# Altium footprint library FUSC7451X125N.PcbLib: 1 footprints
Each footprint in its own frame and in the unit in brackets; x right, y up, seen from the top. Pads: shape width x height; smd on the part's side, far side on the other; paste and mask are expansions set on the pad; w line width, h text height; cw(c..) or ccw(c..) is an arc to the next point about the centre after c.
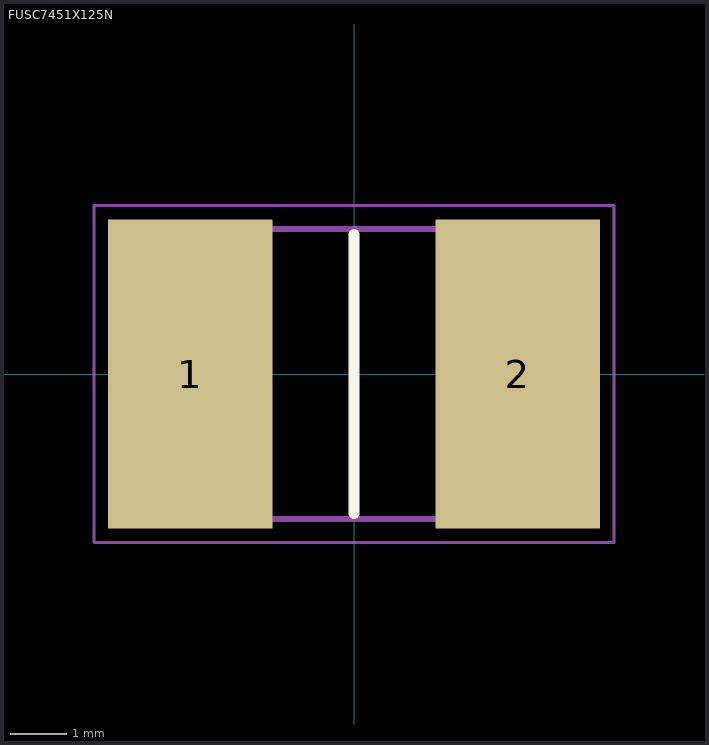
[diagram p0: the footprint, top view; thin cyan lines are the x and y axes]

## FUSC7451X125N [mm]
pads (2):
  rect 2.9x5.45 smd: 1(-2.89,0) 2(2.89,0)
Top Overlay:
  lines w0.2: 0,-2.46 0,2.46
Mechanical 15:
  lines w0.1: -3.678,-2.56 3.678,-2.56 3.678,2.56 -3.678,2.56 -3.678,-2.56
Mechanical 20:
  lines w0.05: -4.59,-2.975 4.59,-2.975 4.59,2.975 -4.59,2.975 -4.59,-2.975